# EAGLE library part X_7SEG (library solderlessPCB v164)
WL-S7DS 7 Segments Display SMT Single Digit Characteristics Industrial standard size and schematic Low power consumption Grey surface Milky / Diffuesed segments Driving with DC current in forward direction only Suitable for high peak current upto 100 mA Applications Audio / measure equipment Instrument panels Digital read out display Control units <https://www.we-online.com/catalog/media/o335301v209%20WL-S7DS_Group.jpg> Details see: www.we-online.com/catalog/WL_S7DS <www.we-online.com/catalog/WL_S7DS/?utm_source=eagle_model&utm_medium=description_link&utm_campaign=eisos_eagle> Created by Ella Wu, 2022-02-25 2022 (C) Wurth Elektronik
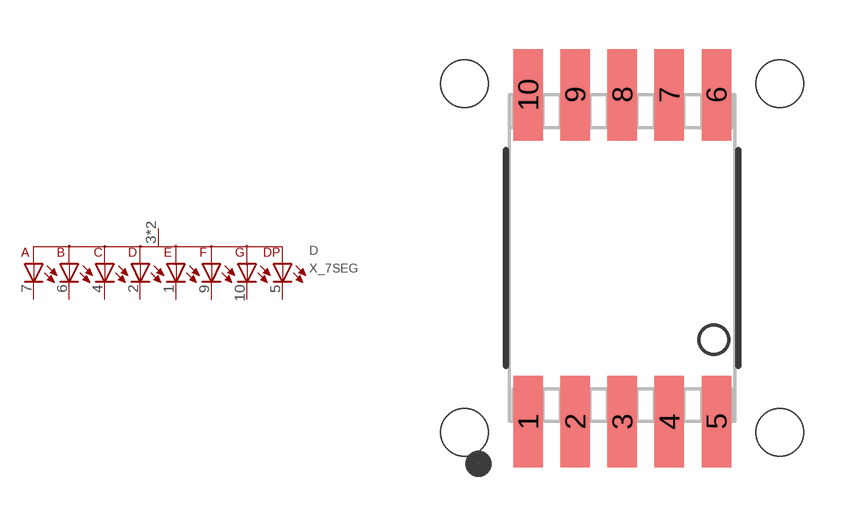
[diagram p9: symbol with the pads of 7SEG; footprint 7SEG]

Designator prefix D

## X_7SEG_157102B12700 (CIRCUITRY: Common Cathode; DATASHEET-URL: https://www.we-online.com/redexpert/spec/157102B12700?ae; EMITTING-COLOR: Blue; FORWARD-VOLTAGE-TYP: 3V; HEIGHT: 3mm; LENGTH: 10mm; LUMINOUS-INTENSITY-TYP: 24mcd; PART-NUMBER: 157102B12700; VALUE: 157102B12700; WIDTH: 6.9mm), X_7SEG_157102S12700 (CIRCUITRY: Common Cathode; DATASHEET-URL: https://www.we-online.com/redexpert/spec/157102S12700?ae; EMITTING-COLOR: Super Red; FORWARD-VOLTAGE-TYP: 2V; HEIGHT: 3mm; LENGTH: 10mm; LUMINOUS-INTENSITY-TYP: 15mcd; PART-NUMBER: 157102S12700; VALUE: 157102S12700; WIDTH: 6.9mm), X_7SEG_157102V12700 (CIRCUITRY: Common Cathode; DATASHEET-URL: https://www.we-online.com/redexpert/spec/157102V12700?ae; EMITTING-COLOR: Bright Green; FORWARD-VOLTAGE-TYP: 2V; HEIGHT: 3mm; LENGTH: 10mm; LUMINOUS-INTENSITY-TYP: 17mcd; PART-NUMBER: 157102V12700; VALUE: 157102V12700; WIDTH: 6.9mm)  [7SEG]
1  1  pas
2  2  pas
3  +  pas
4  4  pas
5  5  pas
6  6  pas
7  7  pas
8  +  pas
9  9  pas
10  10  pas

## Footprint 7SEG (pad centres in mm)
WL-S7DS 7 Segments Display SMT Single Digit Size: 0.2inch, SMT, 10pins L X W X H=10mm X 6.9mm X 3mm
smd 0.9 x 2.8: 1 -2.88,-5; 2 -1.44,-5; 3 0,-5; 4 1.44,-5; 5 2.88,-5; 6 2.88,5; 7 1.44,5; 8 0,5; 9 -1.44,5; 10 -2.88,5
hole 1.45 at 4.826,5.334
hole 1.45 at 4.826,-5.334
hole 1.45 at -4.826,-5.334
hole 1.45 at -4.826,5.334